# EAGLE library part USB-MICRO-5P (library S_Connector )
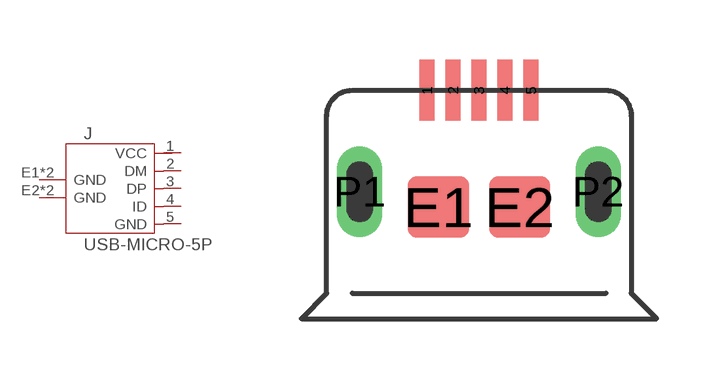
[diagram p35: symbol with the pads of MICRO-USB-5P; footprint MICRO-USB-5P]

Designator prefix J

## USB-MICRO-5P  [MICRO-USB-5P]
1  VCC
2  DM
3  DP
4  ID
5  GND
E1  GND
E2  GND
P1  GND
P2  GND

## Footprint MICRO-USB-5P (pad centres in mm)
smd 0.38 x 1.52: 1 -1.3,0; 2 -0.65,0; 3 0,0; 4 0.65,0; 5 1.3,0
smd 1.524 x 1.524: E1 -1.016,-2.921; E2 1.016,-2.921
drill 0.635 pad 1.143 long: P1 -2.985,-2.54; P2 2.985,-2.54